# Altium footprint library Passive_Old.PcbLib: 221 footprints (part 9 of 14)
Each footprint in its own frame and in the unit in brackets; x right, y up, seen from the top. Pads: shape width x height; smd on the part's side, far side on the other; paste and mask are expansions set on the pad; w line width, h text height; cw(c..) or ccw(c..) is an arc to the next point about the centre after c.
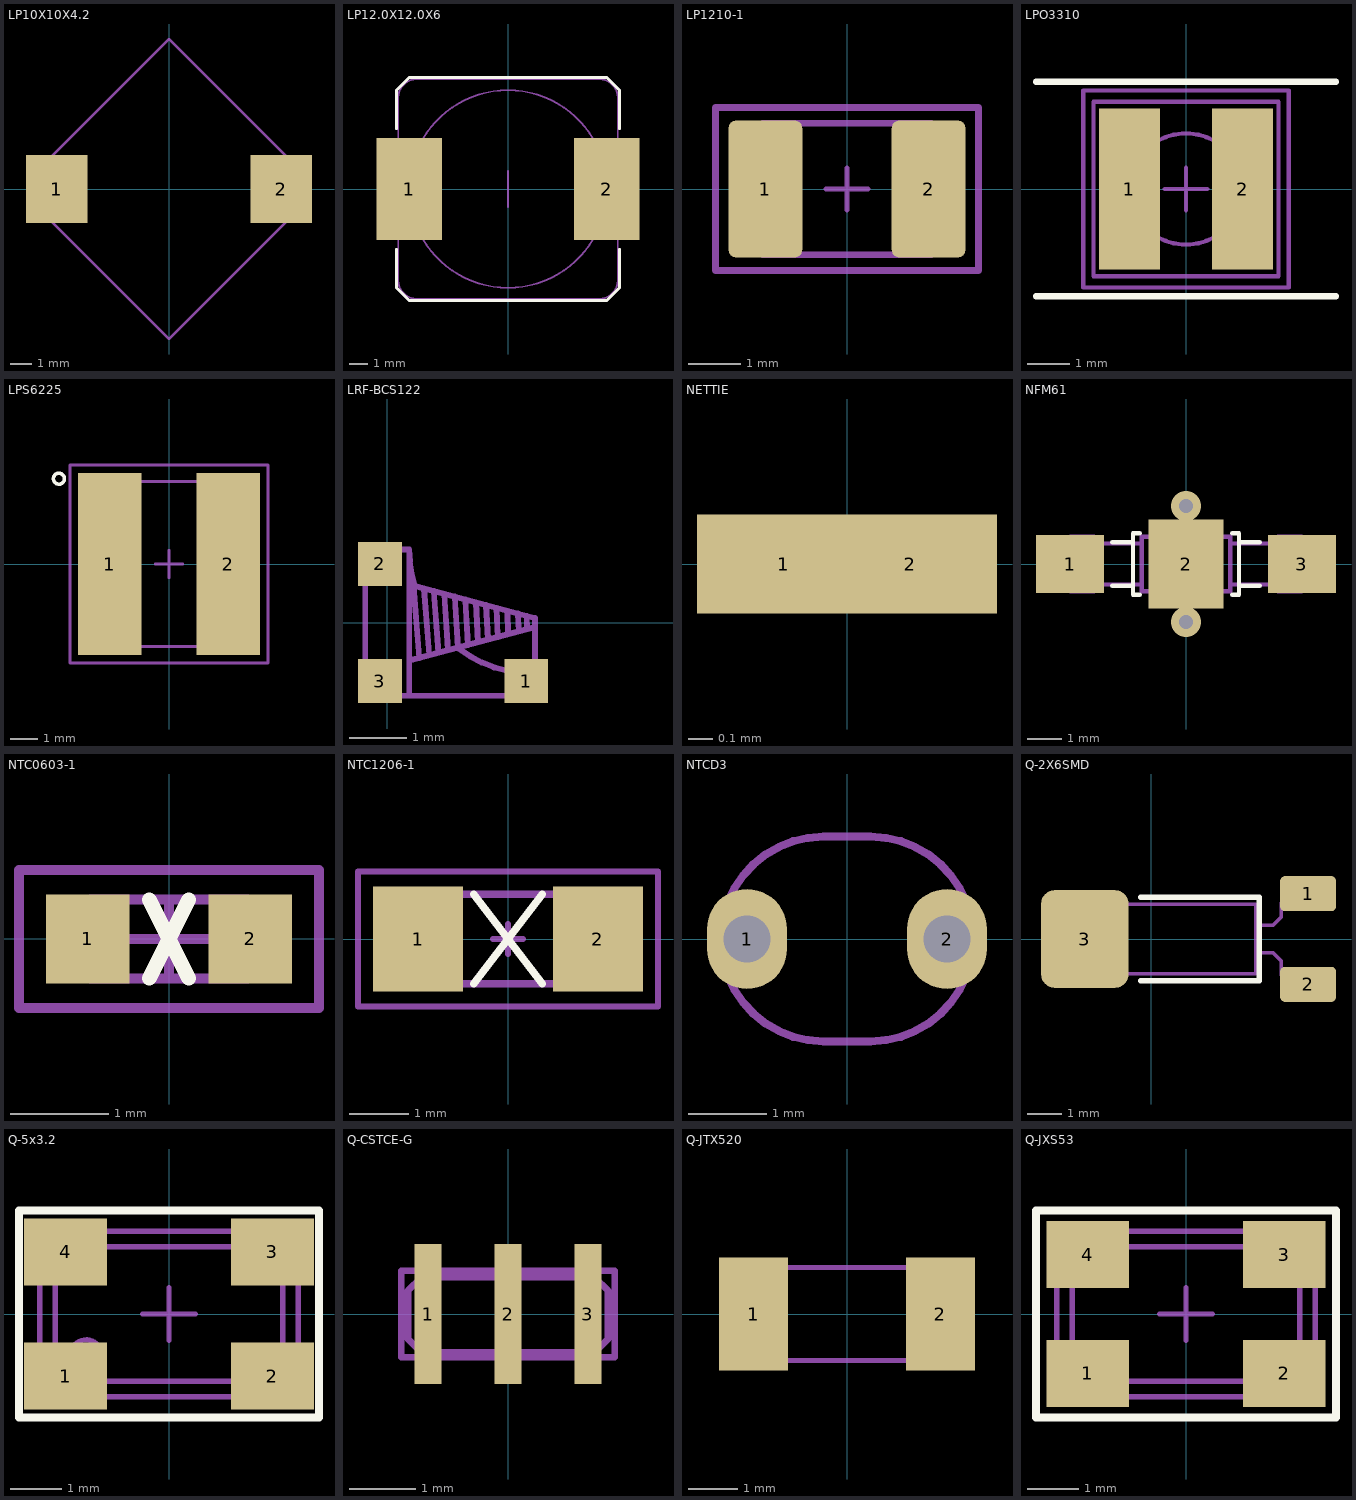
[diagram p8: the footprints below, top view; thin cyan lines are the x and y axes]

## LP10X10X4.2 [mm] "Power inductor 10x10x4.2mm"
height 4.2
pads (2):
  rect 2.9x3.2 smd: 1(-5.3,0) 2(5.3,0)
Mechanical 13:
  lines w0.102: -6.081,-0.99 0,-7.071 6.081,-0.99 6.081,0.99 0,7.071 -6.081,0.99 -6.081,-0.99
3D body: height 3, standoff 0, extent 4.9,-1 6.3,1
3D body: height 3, standoff 0, extent -6.3,-1 -4.9,1
3D body: height 4.2, standoff 0.1, extent -4.409,-4.409 4.409,4.409
3D body: height 4.1, standoff 0.1, extent -6.081,-7.071 6.081,7.071

## LP12.0X12.0X6 [mm] "Power inductor 12.0x12.0x6.0mm Wuerth WE-PD L"
height 6
pads (2):
  rect 3.6x5.6 smd paste-0.2: 1(-5.4,0) 2(5.4,0)
Top Overlay:
  lines w0.15: -6.1,-3.3 -6.1,-5.4 -5.4,-6.1 5.4,-6.1 6.1,-5.4 6.1,-3.3 ; -6.1,3.3 -6.1,5.4 -5.4,6.1 5.4,6.1 6.1,5.4 6.1,3.3
Mechanical 13:
  circle w0.1: c0,0 r5.4
  lines w0.1: -6,-5 ccw(c-5,-5) -5,-6 5,-6 ccw(c5,-5) 6,-5 6,5 ccw(c5,5) 5,6 -5,6 ccw(c-5,5) -6,5 -6,-5
Mechanical 15:
  lines w0.102: 0,-1 0,1
3D body: height 6, standoff 0.6, extent -6.009,-6.009 6.009,6.009
3D body: height 6.01, standoff 0.2, extent -5.412,-5.412 5.412,5.412
3D body: height 6.02, standoff 6, extent -5.011,-5.011 5.011,5.011

## LP1210-1 [mm] "Chip capacitor 1210 (3225)"
height 2
pads (2):
  rrect20% 1.4x2.6 smd: 1(-1.55,0) 2(1.55,0)
Mechanical 13:
  lines w0.127: -1.6,-1.25 1.6,-1.25 1.6,1.25 -1.6,1.25 -1.6,-1.25
Mechanical 15:
  lines w0.102: -0.4,0 0.4,0 ; 0,-0.4 0,0.4
  lines w0.127: -2.5,-1.55 -2.5,1.55 2.5,1.55 2.5,-1.55 -2.5,-1.55
3D body: height 2.2, standoff 0.1, extent -1.6,-1.25 1.6,1.25
3D body: height 1.2, standoff 0, extent -1.778,-0.94 -1.6,0.94
3D body: height 1.2, standoff 0, extent 1.6,-0.94 1.778,0.94

## LPO3310 [mm] "SMD inductor 4.1x3.3x1mm shielded"
height 1
pads (2):
  rect 1.42x3.76 smd: 1(-1.32,0) 2(1.32,0)
Top Overlay:
  lines w0.15: -3.5,-2.5 3.5,-2.5 ; -3.5,2.5 3.5,2.5
Mechanical 13:
  circle w0.1: c0,0 r1.3
  lines w0.102: -2.159,-2.032 2.159,-2.032 2.159,2.032 -2.159,2.032 -2.159,-2.032
Mechanical 15:
  lines w0.102: -0.5,0 0.5,0 ; 0,-0.5 0,0.5 ; -2.4,-2.3 2.4,-2.3 2.4,2.3 -2.4,2.3 -2.4,-2.3
3D body: height 1, standoff 0, extent -2.159,-2.032 2.159,2.032

## LPS6225 [mm] "Power inductor 6x6x2.4mm"
height 2.4
pads (2):
  rect 2.3x6.6 smd: 1(-2.15,0) 2(2.15,0)
Top Overlay:
  circle w0.127: c-4,3.1 r0.2
Mechanical 13:
  circle w0.127: c-2.6,0 r0.224
  lines w0.102: -3,-2 -2,-3 2,-3 3,-2 3,2 2,3 -2,3 -3,2 -3,-2
Mechanical 15:
  lines w0.102: -0.5,0 0.5,0 ; 0,-0.5 0,0.5 ; -3.6,-3.6 3.6,-3.6 3.6,3.6 -3.6,3.6 -3.6,-3.6
3D body: height 2.4, standoff 2.3, extent -2.01,-2.01 1.909,2.01
3D body: height 2.3, standoff 0, extent -3,-3 3,3

## LRF-BCS122 [mil] "Conical inductor SMD 3.05x2.54x2.8mm"
height 110.24
pads (3):
  rect 30x30 smd: 1(95,-40) 2(-5,40) 3(-5,-40)
Mechanical 13:
  lines w4: 15,-26 101,-3 ; 15,26 101,3 101,-3 ; 18,25 21.81,-24.14 ; 18.71,25.15 cw(c100,50) 15,50 ; 25.13,23.29 28.63,-22.35 ; 31.79,21.51 35.01,-20.65 ; 38.92,19.6 41.57,-18.89 ; 46.14,17.67 48.32,-17.09 ; 48.85,-17.88 ccw(c100,50) 100,-35 105,-35 105,-50 15,-50 ; 53.29,15.76 55.11,-15.27 ; 60.71,13.77 62.02,-13.42 ; 67.5,11.96 68.77,-11.3 ; 74.69,10.04 75.47,-9.83 ; 82.05,8.07 82.5,-7.95 ; 89.42,6.1 89.8,-5.99 ; 95.27,4.53 95.56,-4.46 ; 101,-35 101,-3 ; 15,-50 -15,-50 -15,50 15,50 ; 15,-50 15,50
3D body: height 30, standoff 0, extent -15,-50 105,50
3D body: height 90, standoff 30, extent -15,30 15,50
3D body: height 90, standoff 30, extent -15,-50 15,-30
3D body: height 110, standoff 90, extent -15,-50.03 15,50
3D body: height 80, standoff 30, extent 0,-29 101,29

## NETTIE [mm] "Net Tie"
pads (2):
  rect 0.7x0.4 smd: 1(-0.254,0) 2(0.254,0)

## NFM61 [mm]
pads (3):
  rect 2x1.7 smd: 1(-3.4,0) 3(3.4,0)
  rect 2.2x2.6 smd: 2(0,0)
via 0,1.7 diameter 0.889 hole 0.4
via 0,-1.7 diameter 0.889 hole 0.4
Top Overlay:
  lines w0.127: -2.159,-0.635 -1.554,-0.635 ; -2.159,0.635 -1.554,0.635 ; -1.354,-0.9 -1.554,-0.9 -1.554,0.9 -1.354,0.9 ; 1.354,-0.9 1.554,-0.9 1.554,0.9 1.354,0.9 ; 1.554,-0.635 2.159,-0.635 ; 1.554,0.635 2.159,0.635
Mechanical 13:
  lines w0.127: -2.7,-0.6 -1.3,-0.6 ; -2.7,0.6 -1.3,0.6 ; 1.3,-0.6 2.7,-0.6 ; 1.3,0.6 2.7,0.6 ; -3.4,-0.8 -3.4,0.8 -2.7,0.8 -2.7,-0.8 -3.4,-0.8 ; -1.3,-0.8 -1.3,0.8 1.3,0.8 1.3,-0.8 -1.3,-0.8 ; 2.7,-0.8 2.7,0.8 3.4,0.8 3.4,-0.8 2.7,-0.8
Mechanical 15:
  lines w0.127: -0.4,0 0.4,0 ; 0,-0.4 0,0.4
3D body: height 1.6, standoff 0, extent -3.4,-0.8 3.4,0.8

## NTC0603-1 [mm] "NTC resistor 0603 0.9mm high"
height 0.9
pads (2):
  rect 0.85x0.9 smd: 1(-0.825,0) 2(0.825,0)
Top Overlay:
  lines w0.15: -0.2,-0.4 0.2,0.4 ; -0.2,0.4 0.2,-0.4
Mechanical 13:
  lines w0.1: -0.8,-0.4 0.8,-0.4 0.8,0.4 -0.8,0.4 -0.8,-0.4
Mechanical 15:
  lines w0.1: -0.4,0 0.4,0 ; 0,-0.4 0,0.4 ; -1.525,-0.7 1.525,-0.7 1.525,0.7 -1.525,0.7 -1.525,-0.7
3D body: height 0.9, standoff 0, extent -0.4,-0.4 0.4,0.4
3D body: height 0.9, standoff 0, extent -0.8,-0.4 -0.4,0.4
3D body: height 0.9, standoff 0, extent 0.4,-0.4 0.8,0.4

## NTC1206-1 [mil] "Chip resistor 1206"
height 61.02
pads (2):
  rect 60x70 smd: 1(-60,0) 2(60,0)
Top Overlay:
  lines w5: -22.99,-30 22.99,30 ; -22.99,30 22.99,-30
Mechanical 13:
  lines w5: -60,-30 60,-30 60,30 -60,30 -60,-30
Mechanical 15:
  lines w3.94: -10,0 10,0 ; 0,-10 0,10 ; -100,-45 100,-45 100,45 -100,45 -100,-45
3D body: height 47.24, standoff 0.39, extent -60,-30 60,30
3D body: height 47.64, standoff 0, extent -39.37,-30.32 39.37,30.32

## NTCD3 [mm] "NTC resistor THT R2.54mm 2.4x3mm h 8mm"
height 8
pads (2):
  oval 1.016x1.27 hole 0.6: 1(-1.27,0) 2(1.27,0)
Mechanical 13:
  lines w0.1: -0.3,-1.3 0.3,-1.3 ; -0.3,1.3 0.3,1.3
  lines w0.102: -0.3,-1.3 cw(c-0.3,0) -0.3,1.3 ; 0.3,-1.3 ccw(c0.3,0) 0.3,1.3
3D body: height 6, standoff 2, extent -1.611,-1.311 1.611,1.311
3D body: height 2, standoff -3, extent -1.479,-0.2 -1.071,0.208
3D body: height 2, standoff -3, extent 1.071,-0.2 1.479,0.208

## Q-2X6SMD [mm] "Quartz D2x6mm SMD"
height 2
pads (3):
  rrect25% 1.6x1 smd: 1(4.5,1.3) 2(4.5,-1.3)
  rrect30% 2.5x2.8 smd: 3(-1.9,0)
Top Overlay:
  lines w0.15: -0.3,-1.2 3.1,-1.2 3.1,1.2 -0.3,1.2
Mechanical 13:
  lines w0.102: 3,-0.4 3.5,-0.4 3.725,-0.625 3.725,-1.025 4,-1.3 5,-1.3 ; 3,0.4 3.5,0.4 3.725,0.625 3.725,1.025 4,1.3 5,1.3 ; -3.1,-1 -3.1,1 3,1 3,-1 -3.1,-1
3D body: height 2.09, standoff 0.1, extent 1.7,-0.998 3,0.998
3D body: height 2.1, standoff 0.1, extent -3.1,-1 1.7,1

## Q-5x3.2 [mm] "Quartz crystal 5x3.2x0.8mm"
height 0.8
pads (4):
  rect 1.6x1.3 smd: 1(-2,-1.2) 2(2,-1.2) 3(2,1.2) 4(-2,1.2)
Top Overlay:
  lines w0.15: -2.9,-2 2.9,-2 2.9,2 -2.9,2 -2.9,-2
Mechanical 13:
  circle w0.102: c-1.6,-0.8 r0.3
  lines w0.102: -2.5,-1.4 -2.5,1.4 -2.3,1.6 2.3,1.6 2.5,1.4 2.5,-1.4 2.3,-1.6 -2.3,-1.6 -2.5,-1.4 ; -2.2,-1.3 -2.2,1.3 2.2,1.3 2.2,-1.3 -2.2,-1.3
Mechanical 15:
  lines w0.102: -0.508,0 0.508,0 ; 0,-0.508 0,0.508
3D body: height 0.4, standoff 0, extent -2.5,-1.6 2.5,1.6
3D body: height 0.8, standoff 0.4, extent -2.2,-1.3 2.2,1.3
3D body: height 0.81, standoff 0.8, extent -2.005,-1.03 -1.495,-0.52
3D body: height 0.81, standoff 0.8, extent -1.906,-1.106 -1.294,-0.494

## Q-CSTCE-G [mm] "Quartz resonator CSTCE-G 3.2x1.3X0.8mm"
height 0.8
pads (3):
  rect 0.4x2.1 smd: 1(-1.2,0) 2(0,0) 3(1.2,0)
Mechanical 13:
  lines w0.102: -1.6,-0.65 1.6,-0.65 1.6,0.65 -1.6,0.65 -1.6,-0.65 ; -1.5,-0.375 -1.5,0.35 -1.3,0.55 1.3,0.55 1.5,0.35 1.5,-0.375 1.3,-0.575 -1.3,-0.575 -1.5,-0.375
3D body: height 0.3, standoff 0, extent -1.6,-0.65 1.6,0.65
3D body: height 0.8, standoff 0.3, extent -1.5,-0.575 1.5,0.55

## Q-JTX520 [mm] "Quartz crystal JTX520 4.8x1.9x0.8mm"
height 0.8
pads (2):
  rect 1.4x2.3 smd: 1(-1.9,0) 2(1.9,0)
Mechanical 13:
  lines w0.102: -2.4,-0.95 -2.4,0.95 2.2,0.95 2.4,0.75 2.4,-0.95 -2.4,-0.95
3D body: height 0.8, standoff 0, extent -2.4,-0.95 2.4,0.95

## Q-JXS53 [mm] "Quartz crystal 5x3.2x0.8mm"
height 0.8
pads (4):
  rect 1.6x1.3 smd: 1(-1.9,-1.15) 2(1.9,-1.15) 3(1.9,1.15) 4(-1.9,1.15)
Top Overlay:
  lines w0.15: -2.9,-2 2.9,-2 2.9,2 -2.9,2 -2.9,-2
Mechanical 13:
  lines w0.102: -2.5,-1.4 -2.5,1.4 -2.3,1.6 2.3,1.6 2.5,1.4 2.5,-1.4 2.3,-1.6 -2.3,-1.6 -2.5,-1.4 ; -2.2,-1.3 -2.2,1.3 2.2,1.3 2.2,-1.3 -2.2,-1.3
Mechanical 15:
  lines w0.102: -0.508,0 0.508,0 ; 0,-0.508 0,0.508
3D body: height 0.4, standoff 0, extent -2.5,-1.6 2.5,1.6
3D body: height 0.8, standoff 0.4, extent -2.2,-1.3 2.2,1.3
3D body: height 0.81, standoff 0.8, extent -2.005,-1.03 -1.495,-0.52